# EAGLE library part I2SAMP (library KonnorJ_-_ADAFRRUIT_I2S_AMP_MODULE)
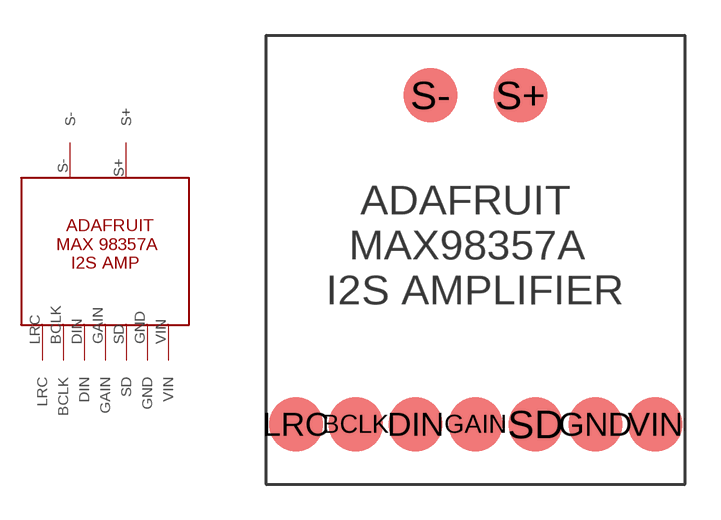
[diagram p0: symbol with the pads of I2SAMP; footprint I2SAMP]

Designator prefix -

## I2SAMP  [I2SAMP]
BCLK  BCLK
DIN  DIN
GAIN  GAIN
GND  GND
LRC  LRC
S+  S+
S-  S-
SD  SD
VIN  VIN

## Footprint I2SAMP (pad centres in mm)
smd 2.286 x 2.286: BCLK 3.81,2.54; DIN 6.35,2.54; GAIN 8.89,2.54; GND 13.97,2.54; LRC 1.27,2.54; S+ 10.795,16.51; S- 6.985,16.51; SD 11.43,2.54; VIN 16.51,2.54